# Altium schematic symbol library Generic Device.SchLib: 96 symbols
Pins are listed as number, name and electrical type; pins without a type are passive.

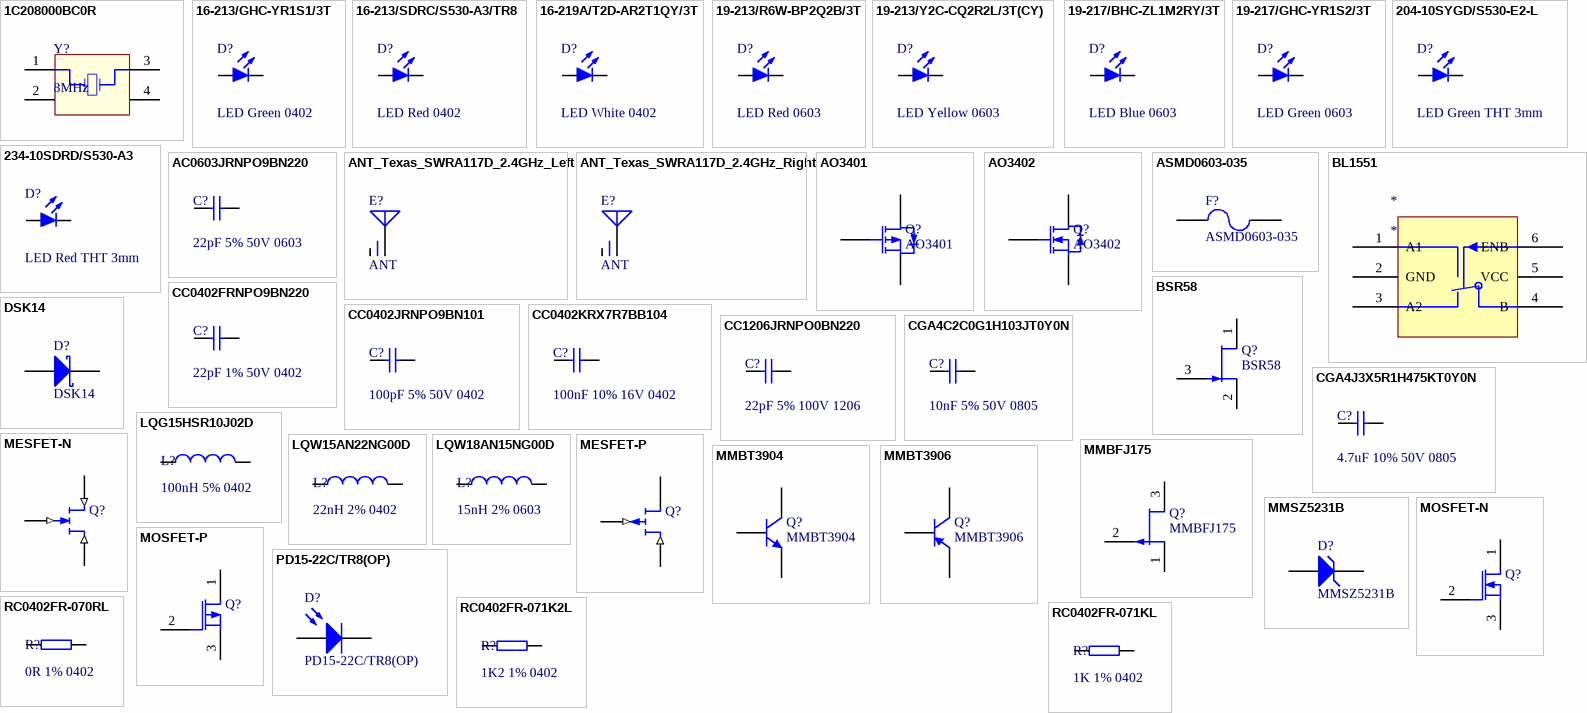
[diagram p0: symbols 1C208000BC0R to RC0402FR-071KL]

## 1C208000BC0R
designator Y?, comment 8MHz
Crystal Oscillator 8MHz ±20ppm; PartNumber: 1C208000BC0R; Manufacturer: YXC; Sku: C57131; Datasheet: https://atta.szlcsc.com/upload/public/pdf/source/20181127/C57131_200E70A230C2972B694309CA4254A92B.pdf; Price/1K: 1.25; Frequency: 8MHz; SupplierContact: https://item.szlcsc.com/58161.html
simulation model XTAL (Spice Subcircuit)
footprint Crystal_SMD_3225-4Pin_3.2x2.5mm
pins: 1 OSC1, 2 GND, 3 OSC2, 4 GND

## 16-213/GHC-YR1S1/3T
designator D?, comment LED Green 0402
Typical SMD Green LED; Manufacturer: EVERLIGHT; PartNumber: 16-213/GHC-YR1S1/3T; Sku: C74338; SupplierContact: https://item.szlcsc.com/75457.html; Datasheet: https://atta.szlcsc.com/upload/public/pdf/source/20160606/1465200212329.pdf; Color: Green; Price/1K: 0.244576
simulation model LED2 (Diode)
footprint D_0402_1005Metric
pins: 1 A, 2 K

## 16-213/SDRC/S530-A3/TR8
designator D?, comment LED Red 0402
Typical SMD Red LED; Manufacturer: EVERLIGHT; PartNumber: 16-213/SDRC/S530-A3/TR8; Sku: C71911; SupplierContact: https://item.szlcsc.com/73020.html; Datasheet: https://atta.szlcsc.com/upload/public/pdf/source/20180423/C71911_C51F85E8EEDEC443F292EE02E8E26750.pdf; Color: Red; Price/1K: 0.169863
simulation model LED2 (Diode)
footprint D_0402_1005Metric
pins: 1 A, 2 K

## 16-219A/T2D-AR2T1QY/3T
designator D?, comment LED White 0402
Typical SMD White LED; Manufacturer: EVERLIGHT; PartNumber: 16-219A/T2D-AR2T1QY/3T; Sku: C74342; SupplierContact: https://item.szlcsc.com/75461.html; Datasheet: https://atta.szlcsc.com/upload/public/pdf/source/20180705/C74342_7139C1633F069441022A5728799C19DA.pdf; Color: White; Price/1K: 0.327527
simulation model LED2 (Diode)
footprint D_0402_1005Metric
pins: 1 A, 2 K

## 19-213/R6W-BP2Q2B/3T
designator D?, comment LED Red 0603
Typical SMD Red LED; Manufacturer: EVERLIGHT; PartNumber: 19-213/R6W-BP2Q2B/3T; Sku: C181863; SupplierContact: https://item.szlcsc.com/193260.html; Datasheet: https://atta.szlcsc.com/upload/public/pdf/source/20190903/C181863_6F4238043BB621B28610B278EFA82774.pdf; Color: Red; Price/1K: 0.123742
simulation model LED2 (Diode)
footprint D_0603_1608Metric
pins: 1 A, 2 K

## 19-213/Y2C-CQ2R2L/3T(CY)
designator D?, comment LED Yellow 0603
Typical SMD Yellow LED; Manufacturer: EVERLIGHT; PartNumber: 19-213/Y2C-CQ2R2L/3T(CY); Sku: C72038; SupplierContact: https://item.szlcsc.com/73147.html; Datasheet: https://atta.szlcsc.com/upload/public/pdf/source/20160507/1462613613586.pdf; Color: Yellow; Price/1K: 0.07599
simulation model LED2 (Diode)
footprint D_0603_1608Metric
pins: 1 A, 2 K

## 19-217/BHC-ZL1M2RY/3T
designator D?, comment LED Blue 0603
Typical SMD Blue LED; Manufacturer: EVERLIGHT; PartNumber: 19-217/BHC-ZL1M2RY/3T; Sku: C72041; SupplierContact: https://item.szlcsc.com/73150.html; Datasheet: https://atta.szlcsc.com/upload/public/pdf/source/20170116/1484561237273.pdf; Color: Blue; Price/1K: 0.080386
simulation model LED2 (Diode)
footprint D_0603_1608Metric
pins: 1 A, 2 K

## 19-217/GHC-YR1S2/3T
designator D?, comment LED Green 0603
Typical SMD Green LED; Manufacturer: EVERLIGHT; PartNumber: 19-217/GHC-YR1S2/3T; Sku: C72043; SupplierContact: https://item.szlcsc.com/73152.html; Datasheet: https://atta.szlcsc.com/upload/public/pdf/source/20160507/1462613613780.pdf; Color: Green; Price/1K: 0.134655
simulation model LED2 (Diode)
footprint D_0603_1608Metric
pins: 1 A, 2 K

## 204-10SYGD/S530-E2-L
designator D?, comment LED Green THT 3mm
Typical THD Green LED; Manufacturer: EVERLIGHT; PartNumber: 204-10SYGD/S530-E2-L; Sku: C181864; SupplierContact: https://item.szlcsc.com/193261.html; Datasheet: https://atta.szlcsc.com/upload/public/pdf/source/20180530/C181864_6FF2FFF93D5E196F3440A39C17F4C039.pdf; Color: Green; Price/1K: 0.121429
simulation model LED2 (Diode)
footprint LED_D3.0mm
pins: 1 A, 2 K

## 234-10SDRD/S530-A3
designator D?, comment LED Red THT 3mm
Typical THD Red LED; Manufacturer: EVERLIGHT; PartNumber: 234-10SDRD/S530-A3; Sku: C181866; SupplierContact: https://item.szlcsc.com/193263.html; Datasheet: https://atta.szlcsc.com/upload/public/pdf/source/20190618/C181866_7E5E6DD26C34DFB3CF53EE69F15E6E05.pdf; Color: Red; Price/1K: 0.144661
simulation model LED2 (Diode)
footprint LED_D3.0mm
pins: 1 A, 2 K

## AC0603JRNPO9BN220
designator C?, comment 22pF 5% 50V 0603
Capacitor; Manufacturer: YAGEO; PartNumber: AC0603JRNPO9BN220; Sku: C309441; SupplierContact: https://item.szlcsc.com/293057.html; Datasheet: https://atta.szlcsc.com/upload/public/pdf/source/20181008/C309441_E958FA06007441EF202D70074EE8AD7B.pdf; Voltage: 50V; Precision: 5%; Price/1K: 0.036477
simulation model CAP (Capacitor)
signal-integrity model Cap
footprint C_0603_1608Metric
pins: 1, 2

## ANT_Texas_SWRA117D_2.4GHz_Left
designator E?, comment ANT  (mechanical)
Antenna
footprint Texas_SWRA117D_2.4GHz_Left (2.4G Antenna)
pins: 1 A, 2 RF_GND

## ANT_Texas_SWRA117D_2.4GHz_Right
designator E?, comment ANT  (mechanical)
Antenna
footprint Texas_SWRA117D_2.4GHz_Right (2.4G Antenna)
pins: 1 A, 2 RF_GND

## AO3401
designator Q?
P-Channel Enhanced mode MOSFET; Manufacturer: SHIKUES; Sku: C122851; Datasheet: https://atta.szlcsc.com/upload/public/pdf/source/20170918/C122851_1505700116343974908.pdf; SupplierContact: https://item.szlcsc.com/124121.html; PartNumber: AO3401; Price/1K: 0.184315
simulation model PMOS (MOSFET-P)
footprint SOT-23
pins: 1 G, 2 S, 3 D

## AO3402
designator Q?
N-Channel Enhanced mode MOSFET
simulation model NMOS (MOSFET-N)
footprint SOT-23
pins: 1 G, 2 S, 3 D

## ASMD0603-035
designator F?
Fuse 0.35A; Manufacturer: JDT; Current: 350mA; Sku: C135322; PartNumber: ASMD0603-035; SupplierContact: https://item.szlcsc.com/146633.html; Datasheet: https://atta.szlcsc.com/upload/public/pdf/source/20171014/C135322_15079756433811038393.pdf
simulation model FUSE (Spice Subcircuit)
footprint R_0603_1608Metric
pins: 1, 2

## BL1551
designator *
PartNumber: BL1551; Manufacturer: BL; SupplierContact: https://item.szlcsc.com/83685.html; Sku: C82528; Datasheet: https://atta.szlcsc.com/upload/public/pdf/source/20160910/1473490325889.pdf; Price/1K: 0.2126
pins: 1 A1, 2 GND, 3 A2, 4 B, 5 VCC, 6 ENB

## BSR58
designator Q?
N-Channel JFET; Manufacturer: ON; Pirce/1K: 0.405718; PartNumber: BSR58; Sku: C75909; Datasheet: https://atta.szlcsc.com/upload/public/pdf/source/20171026/C75909_15089842709341059261.pdf; SupplierContact: https://item.szlcsc.com/77036.html
simulation model NJFET
footprint SOT-23
pins: 1 D, 2 S, 3 G

## CC0402FRNPO9BN220
designator C?, comment 22pF 1% 50V 0402
Capacitor; Manufacturer: YAGEO; PartNumber: CC0402FRNPO9BN220; Sku: C277482; SupplierContact: https://item.szlcsc.com/264801.html; Datasheet: https://atta.szlcsc.com/upload/public/pdf/source/20180829/C277482_4B231FC49D8C634E4564098F0B7A093D.pdf; Voltage: 50V; Precision: 1%; Price/1K: 0.014626
simulation model CAP (Capacitor)
signal-integrity model Cap
footprint C_0402_1005Metric
pins: 1, 2

## CC0402JRNPO9BN101
designator C?, comment 100pF 5% 50V 0402
Capacitor; Manufacturer: YAGEO; PartNumber: CC0402JRNPO9BN101; Sku: C106200; SupplierContact: https://item.szlcsc.com/107415.html; Datasheet: https://atta.szlcsc.com/upload/public/pdf/source/20170425/1493115773886.pdf; Voltage: 50V; Precision: 5%; Price/1K: 0.006667
simulation model CAP (Capacitor)
signal-integrity model Cap
footprint C_0402_1005Metric
pins: 1, 2

## CC0402KRX7R7BB104
designator C?, comment 100nF 10% 16V 0402
Capacitor; Manufacturer: YAGEO; PartNumber: CC0402KRX7R7BB104; Sku: C60474; SupplierContact: https://item.szlcsc.com/61526.html; Datasheet: https://atta.szlcsc.com/upload/public/pdf/source/20170518/1495086054592.pdf; Voltage: 16V; Precision: 10%; Price/1K: 0.006836
simulation model CAP (Capacitor)
signal-integrity model Cap
footprint C_0402_1005Metric
pins: 1, 2

## CC1206JRNPO0BN220
designator C?, comment 22pF 5% 100V 1206
Capacitor; Manufacturer: YAGEO; PartNumber: CC1206JRNPO0BN220; Sku: C113878; SupplierContact: https://item.szlcsc.com/115114.html; Datasheet: https://atta.szlcsc.com/upload/public/pdf/source/20170602/1496384483816.pdf; Voltage: 100V; Precision: 5%; Price/1K: 0.112382
simulation model CAP (Capacitor)
signal-integrity model Cap
footprint C_1206_3216Metric
pins: 1, 2

## CGA4C2C0G1H103JT0Y0N
designator C?, comment 10nF 5% 50V 0805
Capacitor; Manufacturer: TDK; PartNumber: CGA4C2C0G1H103JT0Y0N; Sku: C342877; SupplierContact: https://item.szlcsc.com/319727.html; Datasheet: https://atta.szlcsc.com/upload/public/pdf/source/20190816/C342877_C22001E731534D08BB6E5C673471360D.pdf; Voltage: 50V; Precision: 5%; Price/1K: 0.260566
simulation model CAP (Capacitor)
signal-integrity model Cap
footprint C_0805_2012Metric
pins: 1, 2

## CGA4J3X5R1H475KT0Y0N
designator C?, comment 4.7uF 10% 50V 0805
Capacitor; Manufacturer: TDK; PartNumber: CGA4J3X5R1H475KT0Y0N; Sku: C329962; SupplierContact: https://item.szlcsc.com/309693.html; Datasheet: https://atta.szlcsc.com/upload/public/pdf/source/20190926/C329962_658A568C4765B78533AA820BBC420B4B.pdf; Voltage: 50V; Precision: 10%; Price/1K: 0.112382
simulation model CAP (Capacitor)
signal-integrity model Cap
footprint C_0805_2012Metric
pins: 1, 2

## DSK14
designator D?
Schottky Diode 1A; Reverse Voltage: 40V; SupplierContact: https://item.szlcsc.com/38028.html; Datasheet: https://atta.szlcsc.com/upload/public/pdf/source/20141025/1457707244438.pdf; Sku: C37049; Price/1K: 0.055207; Forward Current: 1A; PartNumber: DSK14
simulation model SKYDIODE (Diode)
signal-integrity model D Schottky
footprint D_SOD-123 (SODFL, 2-Leads, Body 1.60x3.70mm, IPC Medium Density)
pins: 1 A, 2 K

## LQG15HSR10J02D
designator L?, comment 100nH 5% 0402
Inductor; Manufacturer: muRata; PartNumber: LQG15HSR10J02D; Current: 200mA; Resistance: 1.25R; Precision: 5%; Sku: C98004; SupplierContact: https://item.szlcsc.com/99213.html; Datasheet: https://atta.szlcsc.com/upload/public/pdf/source/20180326/C98004_D43708631C17F50E889D0E254B160BA4.pdf; Price/1K: 0.024617
simulation model INDUCTOR (Inductor)
signal-integrity model Inductor
footprint L_0402_1005Metric (Chip Inductor, 2-Leads, Body 1.30x0.70mm, IPC Medium Density)
pins: 1, 2

## LQW15AN22NG00D
designator L?, comment 22nH 2% 0402
Inductor; Manufacturer: muRata; PartNumber: LQW15AN22NG00D; Current: 310mA; Resistance: 300mR; Precision: 2%; Sku: C86129; SupplierContact: https://item.szlcsc.com/87305.html; Datasheet: https://atta.szlcsc.com/upload/public/pdf/source/20180316/9F9AD211FF09D40AF5CB6AD447003171.pdf; Price/1K: 0.146783
simulation model INDUCTOR (Inductor)
signal-integrity model Inductor
footprint L_0402_1005Metric (Chip Inductor, 2-Leads, Body 1.30x0.70mm, IPC Medium Density)
pins: 1, 2

## LQW18AN15NG00D
designator L?, comment 15nH 2% 0603
Inductor; Manufacturer: muRata; PartNumber: LQW18AN15NG00D; Current: 600mA; Resistance: 130mR; Precision: 2%; Sku: C86132; SupplierContact: https://item.szlcsc.com/87308.html; Datasheet: https://atta.szlcsc.com/upload/public/pdf/source/20180326/C86132_4029539BF6357E3C805E97387298656C.pdf; Price/1K: 0.17477
simulation model INDUCTOR (Inductor)
signal-integrity model Inductor
footprint L_0603_1608Metric (Chip Inductor, 2-Leads, Body 1.78x1.10mm, IPC Medium Density)
pins: 1, 2

## MESFET-N
designator Q?
N-Channel MESFET; Published: 8-Jun-2000; LatestRevisionDate: 17-Jul-2002; LatestRevisionNote: Re-released for DXP Platform.; PackageReference: TO-18; Publisher: Altium Limited; PackageDescription: Can; 3 Leads; Pin Circle Dia. 2.54 mm; Lead Dia. 0.48 mm (max); Code_JEDEC: TO-18
simulation model NMESFET (MESFET-N)
pins: 1 D (in), 2 G (in), 3 S (in)

## MESFET-P
designator Q?
P-Channel MESFET; Published: 8-Jun-2000; LatestRevisionDate: 17-Jul-2002; LatestRevisionNote: Re-released for DXP Platform.; PackageReference: TO-18; Publisher: Altium Limited; PackageDescription: Can; 3 Leads; Pin Circle Dia. 2.54 mm; Lead Dia. 0.48 mm (max); Code_JEDEC: TO-18
simulation model PMESFET (MESFET-P)
pins: 1 D (in), 2 G (in), 3 S

## MMBFJ175
designator Q?
P-Channel JFET; Manufacturer: ON; SupplierContact: https://item.szlcsc.com/125766.html; Datasheet: https://atta.szlcsc.com/upload/public/pdf/source/20170804/C124491_1501836274824866302.pdf; Sku: C124491; Price/1K: 0.72; PartNumber: MMBFJ175
simulation model PJFET
footprint SOT-23
pins: 1 D, 2 G, 3 S

## MMBT3904
designator Q?
NPN Bipolar Transistor; Manufacturer: CJ; Vce: 40V; Ic: 200mA; PartNumber: MMBT3904; SupplierContact: https://item.szlcsc.com/21237.html; Datasheet: https://atta.szlcsc.com/upload/public/pdf/source/20140809/1457707209152.pdf; Sku: C20526; Price/1K: 0.051172
simulation model NPN
signal-integrity model NPN
footprint SOT-23
pins: 1 B, 2 E, 3 C

## MMBT3906
designator Q?
PNP Bipolar Transistor; Manufacturer: CJ; Vce: 40V; Ic: 200mA; SupplierContact: https://item.szlcsc.com/2500.html; Sku: C2143; Datasheet: https://atta.szlcsc.com/upload/public/pdf/source/20140809/1457707209152.pdf; Price/1K: 0.056787; PartNumber: MMBT3906
simulation model PNP
signal-integrity model PNP
pins: 1 B, 2 E, 3 C

## MMSZ5231B
designator D?
Zener Diode 5.1V; Manufacturer: CJ; SupplierContact: https://item.szlcsc.com/22284.html; PartNumber: MMSZ5231B; Sku: C21563; Price/1K: 0.095425; Datasheet: https://atta.szlcsc.com/upload/public/pdf/source/20140301/1457707002365.pdf; Voltage: 5.1V
simulation model ZENER (Diode)
signal-integrity model D Zener
footprint D_SOD-123 (SODFL, 2-Leads, Body 1.60x3.70mm, IPC Medium Density)
pins: 1 A, 2 K

## MOSFET-N
designator Q?
N-Channel Depletion mode MOSFET; Published: 8-Jun-2000; LatestRevisionDate: 17-Jul-2002; LatestRevisionNote: Re-released for DXP Platform.; PackageVersion: 1995/1996; PackageReference: E3; Publisher: Altium Limited; PackageDescription: TO, Flat Index; 3 In-Line, Axial Leads; Body Dia. 4.6mm; Lead Dia. 0.5 mm (max)
simulation model NMOS (MOSFET-N)
pins: 1 D, 2 G, 3 S

## MOSFET-P
designator Q?
P-Channel Depletion mode MOSFET
simulation model PMOS (MOSFET-P)
pins: 1 D, 2 G, 3 S

## PD15-22C/TR8(OP)
designator D?
Photosensitive Diode; Manufacturer: EVERLight; SupplierContact: https://item.szlcsc.com/366001.html; PartNumber: PD15-22C/TR8(OP); Datasheet: https://atta.szlcsc.com/upload/public/pdf/source/20190628/C390036_8EE39B6BE379C584EE8664609F8F3F56.pdf; Sku: C390036; Price/1K: 0.397857
footprint PhotoSenser_PD15-22C/TR8(OP)
pins: 1 A, 2 K

## RC0402FR-070RL
designator R?, comment 0R 1% 0402
Resistor; Manufacturer: YAGEO; PartNumber: RC0402FR-070RL; SupplierContact: https://item.szlcsc.com/107446.html; Sku: C106231; Datasheet: https://atta.szlcsc.com/upload/public/pdf/source/20170518/1495085712260.pdf; Price/1K: 0.002341; Precision: 1%
simulation model RESISTOR (Resistor)
signal-integrity model Res
footprint R_0402_1005Metric
pins: 1, 2

## RC0402FR-071K2L
designator R?, comment 1K2 1% 0402
Resistor; Manufacturer: YAGEO; PartNumber: RC0402FR-071K2L; SupplierContact: https://item.szlcsc.com/149356.html; Sku: C138040; Datasheet: https://atta.szlcsc.com/upload/public/pdf/source/20171107/C138040_15100516575521096963.pdf; Price/1K: 0.012251; Precision: 1%
simulation model RESISTOR (Resistor)
signal-integrity model Res
footprint R_0402_1005Metric
pins: 1, 2

## RC0402FR-071KL
designator R?, comment 1K 1% 0402
Resistor; Manufacturer: YAGEO; PartNumber: RC0402FR-071KL; SupplierContact: https://item.szlcsc.com/107450.html; Sku: C106235; Datasheet: https://atta.szlcsc.com/upload/public/pdf/source/20170518/1495085714666.pdf; Price/1K: 0.003173; Precision: 1%
simulation model RESISTOR (Resistor)
signal-integrity model Res
footprint R_0402_1005Metric
pins: 1, 2

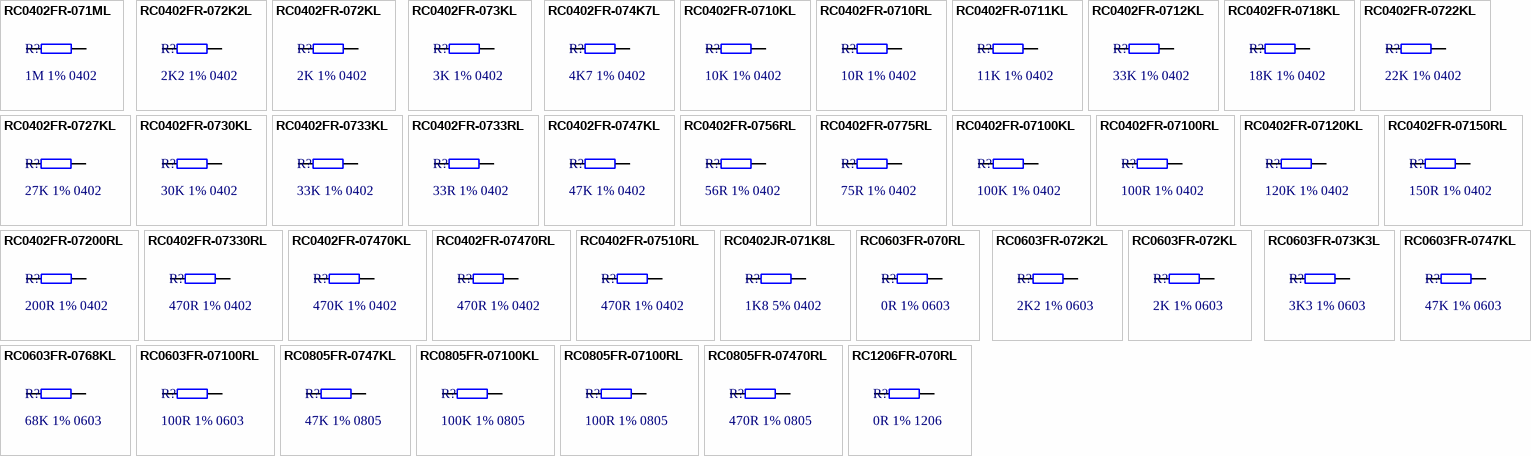
[diagram p1: symbols RC0402FR-071ML to RC1206FR-070RL]

## RC0402FR-071ML
designator R?, comment 1M 1% 0402
Resistor; Manufacturer: YAGEO; PartNumber: RC0402FR-071ML; SupplierContact: https://item.szlcsc.com/149349.html; Sku: C138033; Datasheet: https://atta.szlcsc.com/upload/public/pdf/source/20171107/C138033_15100516521061096957.pdf; Price/1K: 0.002486; Precision: 1%
simulation model RESISTOR (Resistor)
signal-integrity model Res
footprint R_0402_1005Metric
pins: 1, 2

## RC0402FR-072K2L
designator R?, comment 2K2 1% 0402
Resistor; Manufacturer: YAGEO; PartNumber: RC0402FR-072K2L; SupplierContact: https://item.szlcsc.com/116006.html; Sku: C114762; Datasheet: https://atta.szlcsc.com/upload/public/pdf/source/20170912/C114762_1505207818772963480.pdf; Price/1K: 0.002652; Precision: 1%
simulation model RESISTOR (Resistor)
signal-integrity model Res
footprint R_0402_1005Metric
pins: 1, 2

## RC0402FR-072KL
designator R?, comment 2K 1% 0402
Resistor; Manufacturer: YAGEO; PartNumber: RC0402FR-072KL; SupplierContact: https://item.szlcsc.com/61540.html; Sku: C60488; Datasheet: https://atta.szlcsc.com/upload/public/pdf/source/20170908/C60488_1504870084546958027.pdf; Price/1K: 0.002468; Precision: 1%
simulation model RESISTOR (Resistor)
signal-integrity model Res
footprint R_0402_1005Metric
pins: 1, 2

## RC0402FR-073KL
designator R?, comment 3K 1% 0402
Resistor; Manufacturer: YAGEO; PartNumber: RC0402FR-073KL; SupplierContact: https://item.szlcsc.com/149303.html; Sku: C137987; Datasheet: https://atta.szlcsc.com/upload/public/pdf/source/20171107/C137987_15100516201071096915.pdf; Price/1K: 0.013343; Precision: 1%
simulation model RESISTOR (Resistor)
signal-integrity model Res
footprint R_0402_1005Metric
pins: 1, 2

## RC0402FR-074K7L
designator R?, comment 4K7 1% 0402
Resistor; Manufacturer: YAGEO; PartNumber: RC0402FR-074K7L; SupplierContact: https://item.szlcsc.com/107086.html; Sku: C105871; Datasheet: https://atta.szlcsc.com/upload/public/pdf/source/20170912/C105871_1505207463959963228.pdf; Price/1K: 0.010391; Precision: 1%
simulation model RESISTOR (Resistor)
signal-integrity model Res
footprint R_0402_1005Metric
pins: 1, 2

## RC0402FR-0710KL
designator R?, comment 10K 1% 0402
Resistor; Manufacturer: YAGEO; PartNumber: RC0402FR-0710KL; SupplierContact: https://item.szlcsc.com/61542.html; Sku: C60490; Datasheet: https://atta.szlcsc.com/upload/public/pdf/source/20170606/1496716515432.pdf; Price/1K: 0.002396; Precision: 1%
simulation model RESISTOR (Resistor)
signal-integrity model Res
footprint R_0402_1005Metric
pins: 1, 2

## RC0402FR-0710RL
designator R?, comment 10R 1% 0402
Resistor; Manufacturer: YAGEO; PartNumber: RC0402FR-0710RL; SupplierContact: https://item.szlcsc.com/149382.html; Sku: C138066; Datasheet: https://atta.szlcsc.com/upload/public/pdf/source/20171107/C138066_15100516786461096988.pdf; Price/1K: 0.002551; Precision: 1%
simulation model RESISTOR (Resistor)
signal-integrity model Res
footprint R_0402_1005Metric
pins: 1, 2

## RC0402FR-0711KL
designator R?, comment 11K 1% 0402
Resistor; Manufacturer: YAGEO; PartNumber: RC0402FR-0711KL; SupplierContact: https://item.szlcsc.com/107447.html; Sku: C138063; Datasheet: https://atta.szlcsc.com/upload/public/pdf/source/20170518/1495085712869.pdf; Price/1K: 0.012335; Precision: 1%
simulation model RESISTOR (Resistor)
signal-integrity model Res
footprint R_0402_1005Metric
pins: 1, 2

## RC0402FR-0712KL
designator R?, comment 33K 1% 0402
Resistor; Manufacturer: YAGEO; PartNumber: RC0402FR-0712KL; SupplierContact: https://item.szlcsc.com/116004.html; Sku: C114760; Datasheet: https://atta.szlcsc.com/upload/public/pdf/source/20170912/C114760_1505207817289963478.pdf; Price/1K: 0.00247; Precision: 1%
simulation model RESISTOR (Resistor)
signal-integrity model Res
footprint R_0402_1005Metric
pins: 1, 2

## RC0402FR-0718KL
designator R?, comment 18K 1% 0402
Resistor; Manufacturer: YAGEO; PartNumber: RC0402FR-0718KL; SupplierContact: https://item.szlcsc.com/149360.html; Sku: C138044; Datasheet: https://atta.szlcsc.com/upload/public/pdf/source/20171107/C138044_15100516608411096967.pdf; Price/1K: 0.003583; Precision: 1%
simulation model RESISTOR (Resistor)
signal-integrity model Res
footprint R_0402_1005Metric
pins: 1, 2

## RC0402FR-0722KL
designator R?, comment 22K 1% 0402
Resistor; Manufacturer: YAGEO; PartNumber: RC0402FR-0722KL; SupplierContact: https://item.szlcsc.com/84029.html; Sku: C82868; Datasheet: https://atta.szlcsc.com/upload/public/pdf/source/20171123/C82868_15114111826501138005.pdf; Price/1K: 0.008382; Precision: 1%
simulation model RESISTOR (Resistor)
signal-integrity model Res
footprint R_0402_1005Metric
pins: 1, 2

## RC0402FR-0727KL
designator R?, comment 27K 1% 0402
Resistor; Manufacturer: YAGEO; PartNumber: RC0402FR-0727KL; SupplierContact: https://item.szlcsc.com/149338.html; Sku: C138022; Datasheet: https://atta.szlcsc.com/upload/public/pdf/source/20171113/C138022_15105611226441115522.pdf; Price/1K: 0.013093; Precision: 1%
simulation model RESISTOR (Resistor)
signal-integrity model Res
footprint R_0402_1005Metric
pins: 1, 2

## RC0402FR-0730KL
designator R?, comment 30K 1% 0402
Resistor; Manufacturer: YAGEO; PartNumber: RC0402FR-0730KL; SupplierContact: https://item.szlcsc.com/149324.html; Sku: C138008; Datasheet: https://atta.szlcsc.com/upload/public/pdf/source/20171107/C138008_15100516356731096935.pdf; Price/1K: 0.010391; Precision: 1%
simulation model RESISTOR (Resistor)
signal-integrity model Res
footprint R_0402_1005Metric
pins: 1, 2

## RC0402FR-0733KL
designator R?, comment 33K 1% 0402
Resistor; Manufacturer: YAGEO; PartNumber: RC0402FR-0733KL; SupplierContact: https://item.szlcsc.com/149319.html; Sku: C138003; Datasheet: https://atta.szlcsc.com/upload/public/pdf/source/20171107/C138003_15100516318761096930.pdf; Price/1K: 0.013485; Precision: 1%
simulation model RESISTOR (Resistor)
signal-integrity model Res
footprint R_0402_1005Metric
pins: 1, 2

## RC0402FR-0733RL
designator R?, comment 33R 1% 0402
Resistor; Manufacturer: YAGEO; PartNumber: RC0402FR-0733RL; SupplierContact: https://item.szlcsc.com/149318.html; Sku: C138002; Datasheet: https://atta.szlcsc.com/upload/public/pdf/source/20171107/C138002_15100516310171096929.pdf; Price/1K: 0.002435; Precision: 1%
simulation model RESISTOR (Resistor)
signal-integrity model Res
footprint R_0402_1005Metric
pins: 1, 2

## RC0402FR-0747KL
designator R?, comment 47K 1% 0402
Resistor; Manufacturer: YAGEO; PartNumber: RC0402FR-0747KL; SupplierContact: https://item.szlcsc.com/95141.html; Sku: C93943; Datasheet: https://atta.szlcsc.com/upload/public/pdf/source/20170908/C93943_1504870168965958150.pdf; Price/1K: 0.011425; Precision: 1%
simulation model RESISTOR (Resistor)
signal-integrity model Res
footprint R_0402_1005Metric
pins: 1, 2

## RC0402FR-0756RL
designator R?, comment 56R 1% 0402
Resistor; Manufacturer: YAGEO; PartNumber: RC0402FR-0756RL; SupplierContact: https://item.szlcsc.com/149273.html; Sku: C137957; Datasheet: https://atta.szlcsc.com/upload/public/pdf/source/20171107/C137957_15100515975331096885.pdf; Price/1K: 0.011131; Precision: 1%
simulation model RESISTOR (Resistor)
signal-integrity model Res
footprint R_0402_1005Metric
pins: 1, 2

## RC0402FR-0775RL
designator R?, comment 75R 1% 0402
Resistor; Manufacturer: YAGEO; PartNumber: RC0402FR-0775RL; SupplierContact: https://item.szlcsc.com/116001.html; Sku: C114757; Datasheet: https://atta.szlcsc.com/upload/public/pdf/source/20170912/C114757_1505207814834963475.pdf; Price/1K: 0.002385; Precision: 1%
simulation model RESISTOR (Resistor)
signal-integrity model Res
footprint R_0402_1005Metric
pins: 1, 2

## RC0402FR-07100KL
designator R?, comment 100K 1% 0402
Resistor; Manufacturer: YAGEO; PartNumber: RC0402FR-07100KL; SupplierContact: https://item.szlcsc.com/61543.html; Sku: C60491; Datasheet: https://atta.szlcsc.com/upload/public/pdf/source/20170518/1495086055123.pdf; Price/1K: 0.002426; Precision: 1%
simulation model RESISTOR (Resistor)
signal-integrity model Res
footprint R_0402_1005Metric
pins: 1, 2

## RC0402FR-07100RL
designator R?, comment 100R 1% 0402
Resistor; Manufacturer: YAGEO; PartNumber: RC0402FR-07100RL; SupplierContact: https://item.szlcsc.com/107447.html; Sku: C106232; Datasheet: https://atta.szlcsc.com/upload/public/pdf/source/20170518/1495085712869.pdf; Price/1K: 0.002349; Precision: 1%
simulation model RESISTOR (Resistor)
signal-integrity model Res
footprint R_0402_1005Metric
pins: 1, 2

## RC0402FR-07120KL
designator R?, comment 120K 1% 0402
Resistor; Manufacturer: YAGEO; PartNumber: RC0402FR-07120KL; SupplierContact: https://item.szlcsc.com/95143.html; Sku: C93945; Datasheet: https://atta.szlcsc.com/upload/public/pdf/source/20170908/C93945_1504870169608958151.pdf; Price/1K: 0.012455; Precision: 1%
simulation model RESISTOR (Resistor)
signal-integrity model Res
footprint R_0402_1005Metric
pins: 1, 2

## RC0402FR-07150RL
designator R?, comment 150R 1% 0402
Resistor; Manufacturer: YAGEO; PartNumber: RC0402FR-07150RL; SupplierContact: https://item.szlcsc.com/149370.html; Sku: C138054; Datasheet: https://atta.szlcsc.com/upload/public/pdf/source/20171107/C138054_15100516700041096977.pdf; Price/1K: 0.011922; Precision: 1%
simulation model RESISTOR (Resistor)
signal-integrity model Res
footprint R_0402_1005Metric
pins: 1, 2

## RC0402FR-07200RL
designator R?, comment 200R 1% 0402
Resistor; Manufacturer: YAGEO; PartNumber: RC0402FR-07200RL; SupplierContact: https://item.szlcsc.com/116008.html; Sku: C114764; Datasheet: https://atta.szlcsc.com/upload/public/pdf/source/20170912/C114764_1505207820163963482.pdf; Price/1K: 0.003352; Precision: 1%
simulation model RESISTOR (Resistor)
signal-integrity model Res
footprint R_0402_1005Metric
pins: 1, 2

## RC0402FR-07330RL
designator R?, comment 470R 1% 0402
Resistor; Manufacturer: YAGEO; PartNumber: RC0402FR-07330RL; SupplierContact: https://item.szlcsc.com/107090.html; Sku: C105875; Datasheet: https://atta.szlcsc.com/upload/public/pdf/source/20171014/C105875_15079752483611037902.pdf; Price/1K: 0.002377; Precision: 1%
simulation model RESISTOR (Resistor)
signal-integrity model Res
footprint R_0402_1005Metric
pins: 1, 2

## RC0402FR-07470KL
designator R?, comment 470K 1% 0402
Resistor; Manufacturer: YAGEO; PartNumber: RC0402FR-07470KL; SupplierContact: https://item.szlcsc.com/149292.html; Sku: C137976; Datasheet: https://atta.szlcsc.com/upload/public/pdf/source/20171107/C137976_15100516118121096904.pdf; Price/1K: 0.010313; Precision: 1%
simulation model RESISTOR (Resistor)
signal-integrity model Res
footprint R_0402_1005Metric
pins: 1, 2

## RC0402FR-07470RL
designator R?, comment 470R 1% 0402
Resistor; Manufacturer: YAGEO; PartNumber: RC0402FR-07470RL; SupplierContact: https://item.szlcsc.com/116121.html; Sku: C114877; Datasheet: https://atta.szlcsc.com/upload/public/pdf/source/20170912/C114877_1505207821835963485.pdf; Price/1K: 0.002562; Precision: 1%
simulation model RESISTOR (Resistor)
signal-integrity model Res
footprint R_0402_1005Metric
pins: 1, 2

## RC0402FR-07510RL
designator R?, comment 470R 1% 0402
Resistor; Manufacturer: YAGEO; PartNumber: RC0402FR-07510RL; SupplierContact: https://item.szlcsc.com/263977.html; Sku: C276273; Datasheet: https://atta.szlcsc.com/upload/public/pdf/source/20180904/C276273_EE1233773D5E62AA9C4A34DD19110C10.pdf; Price/1K: 0.002606; Precision: 1%
simulation model RESISTOR (Resistor)
signal-integrity model Res
footprint R_0402_1005Metric
pins: 1, 2

## RC0402JR-071K8L
designator R?, comment 1K8 5% 0402
Resistor; Manufacturer: YAGEO; PartNumber: RC0402JR-071K8L; SupplierContact: https://item.szlcsc.com/149225.html; Sku: C137909; Datasheet: https://atta.szlcsc.com/upload/public/pdf/source/20171107/C137909_15100515623851096840.pdf; Price/1K: 0.011117; Precision: 5%
simulation model RESISTOR (Resistor)
signal-integrity model Res
footprint R_0402_1005Metric
pins: 1, 2

## RC0603FR-070RL
designator R?, comment 0R 1% 0603
Resistor; Manufacturer: YAGEO; PartNumber: RC0603FR-070RL; SupplierContact: https://item.szlcsc.com/101258.html; Sku: C100044; Datasheet: https://atta.szlcsc.com/upload/public/pdf/source/20170620/1497944725236.pdf; Price/1K: 0.004316; Precision: 1%
simulation model RESISTOR (Resistor)
signal-integrity model Res
footprint R_0603_1608Metric
pins: 1, 2

## RC0603FR-072K2L
designator R?, comment 2K2 1% 0603
Resistor; Manufacturer: YAGEO; PartNumber: RC0603FR-072K2L; SupplierContact: https://item.szlcsc.com/115906.html; Sku: C114662; Datasheet: https://atta.szlcsc.com/upload/public/pdf/source/20170818/C114662_1503051152560895127.pdf; Price/1K: 0.004685; Precision: 1%
simulation model RESISTOR (Resistor)
signal-integrity model Res
footprint R_0603_1608Metric
pins: 1, 2

## RC0603FR-072KL
designator R?, comment 2K 1% 0603
Resistor; Manufacturer: YAGEO; PartNumber: RC0603FR-072KL; SupplierContact: https://item.szlcsc.com/106791.html; Sku: C105576; Datasheet: https://atta.szlcsc.com/upload/public/pdf/source/20170428/1493376739276.pdf; Price/1K: 0.004326; Precision: 1%
simulation model RESISTOR (Resistor)
signal-integrity model Res
footprint R_0603_1608Metric
pins: 1, 2

## RC0603FR-073K3L
designator R?, comment 3K3 1% 0603
Resistor; Manufacturer: YAGEO; PartNumber: RC0603FR-073K3L; SupplierContact: https://item.szlcsc.com/109297.html; Sku: C108078; Datasheet: https://atta.szlcsc.com/upload/public/pdf/source/20170818/C108078_1503051116709895065.pdf; Price/1K: 0.005182; Precision: 1%
simulation model RESISTOR (Resistor)
signal-integrity model Res
footprint R_0603_1608Metric
pins: 1, 2

## RC0603FR-0747KL
designator R?, comment 47K 1% 0603
Resistor; Manufacturer: YAGEO; PartNumber: RC0603FR-0747KL; SupplierContact: https://item.szlcsc.com/106794.html; Sku: C105579; Datasheet: https://atta.szlcsc.com/upload/public/pdf/source/20170428/1493376740901.pdf; Price/1K: 0.004311; Precision: 1%
simulation model RESISTOR (Resistor)
signal-integrity model Res
footprint R_0603_1608Metric
pins: 1, 2

## RC0603FR-0768KL
designator R?, comment 68K 1% 0603
Resistor; Manufacturer: YAGEO; PartNumber: RC0603FR-0768KL; SupplierContact: https://item.szlcsc.com/115877.html; Sku: C114633; Datasheet: https://atta.szlcsc.com/upload/public/pdf/source/20170818/C114633_1503051150281895124.pdf; Price/1K: 0.004207; Precision: 1%
simulation model RESISTOR (Resistor)
signal-integrity model Res
footprint R_0603_1608Metric
pins: 1, 2

## RC0603FR-07100RL
designator R?, comment 100R 1% 0603
Resistor; Manufacturer: YAGEO; PartNumber: RC0603FR-07100RL; SupplierContact: https://item.szlcsc.com/106804.html; Sku: C105588; Datasheet: https://atta.szlcsc.com/upload/public/pdf/source/20170428/1493376742308.pdf; Price/1K: 0.004416; Precision: 1%
simulation model RESISTOR (Resistor)
signal-integrity model Res
footprint R_0603_1608Metric
pins: 1, 2

## RC0805FR-0747KL
designator R?, comment 47K 1% 0805
Resistor; Manufacturer: YAGEO; PartNumber: RC0805FR-0747KL; SupplierContact: https://item.szlcsc.com/137631.html; Sku: C126351; Datasheet: https://atta.szlcsc.com/upload/public/pdf/source/20170912/C126351_1505207885148963572.pdf; Price/1K: 0.0203; Precision: 1%
simulation model RESISTOR (Resistor)
signal-integrity model Res
footprint R_0402_1005Metric
pins: 1, 2

## RC0805FR-07100KL
designator R?, comment 100K 1% 0805
Resistor; Manufacturer: YAGEO; PartNumber: RC0805FR-07100KL; SupplierContact: https://item.szlcsc.com/97550.html; Sku: C96346; Datasheet: https://atta.szlcsc.com/upload/public/pdf/source/20170304/1488621208805.pdf; Price/1K: 0.008312; Precision: 1%
simulation model RESISTOR (Resistor)
signal-integrity model Res
footprint R_0805_2012Metric
pins: 1, 2

## RC0805FR-07100RL
designator R?, comment 100R 1% 0805
Resistor; Manufacturer: YAGEO; PartNumber: RC0805FR-07100RL; SupplierContact: https://item.szlcsc.com/106792.html; Sku: C105577; Datasheet: https://atta.szlcsc.com/upload/public/pdf/source/20180326/C105577_AD9A7BE83CA741FA4285487F4E780D99.pdf; Price/1K: 0.008616; Precision: 1%
simulation model RESISTOR (Resistor)
signal-integrity model Res
footprint R_0805_2012Metric
pins: 1, 2

## RC0805FR-07470RL
designator R?, comment 470R 1% 0805
Resistor; Manufacturer: YAGEO; PartNumber: RC0805FR-07470RL; SupplierContact: https://item.szlcsc.com/106792.html; Sku: C114564; Datasheet: https://atta.szlcsc.com/upload/public/pdf/source/20180326/C105577_AD9A7BE83CA741FA4285487F4E780D99.pdf; Price/1K: 0.014577; Precision: 1%
simulation model RESISTOR (Resistor)
signal-integrity model Res
footprint R_0805_2012Metric
pins: 1, 2

## RC1206FR-070RL
designator R?, comment 0R 1% 1206
Resistor; Manufacturer: YAGEO; PartNumber: RC1206FR-070RL; SupplierContact: https://item.szlcsc.com/148710.html; Sku: C137394; Datasheet: https://atta.szlcsc.com/upload/public/pdf/source/20171106/C137394_15099604109671093558.pdf; Price/1K: 0.01296; Precision: 1%
simulation model RESISTOR (Resistor)
signal-integrity model Res
footprint R_1206_3216Metric
pins: 1, 2

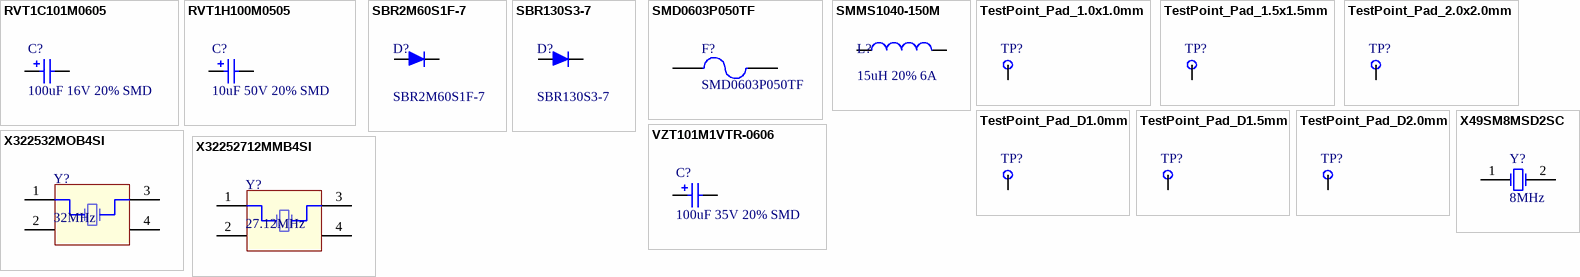
[diagram p2: symbols RVT1C101M0605 to X32252712MMB4SI]

## RVT1C101M0605
designator C?, comment 100uF 16V 20% SMD
Aluminum Polarized Capacitor (Surface Mount); PartNumber: RVT1C101M0605; Manufacturer: Honor; Datasheet: https://atta.szlcsc.com/upload/public/pdf/source/20160816/1471342958881.pdf; SupplierContact: https://item.szlcsc.com/38287.html; Sku: C37308; Voltage: 16V; Precision: 20%; Price/1K: 0.161706
simulation model CAP (Capacitor)
signal-integrity model Cap Pol
footprint CP_Elec_6.6x6.6x5.7mm_D6.3mm (Aluminum Electrolytic Capacitor, Body 6.60x6.60x5.70mm, IPC Low Density)
pins: 1, 2
1 alternate drawing of the same symbol

## RVT1H100M0505
designator C?, comment 10uF 50V 20% SMD
Aluminum Polarized Capacitor (Surface Mount); PartNumber: RVT1H100M0505; Manufacturer: Roqang; Datasheet: https://atta.szlcsc.com/upload/public/pdf/watermark/20190926/C72487_8E5F4AF595E9FA018662BF7FB489AD0A.pdf; SupplierContact: https://item.szlcsc.com/38287.html; Sku: C72487; Voltage: 50V; Precision: 20%; Price/1K: 0.130608
simulation model CAP (Capacitor)
signal-integrity model Cap Pol
footprint CP_Elec_6.6x6.6x5.7mm_D6.3mm (Aluminum Electrolytic Capacitor, Body 6.60x6.60x5.70mm, IPC Low Density)
pins: 1, 2
1 alternate drawing of the same symbol

## SBR2M60S1F-7
designator D?
Diode; Manufacturer: DIODES; Forward Current: 700mV@2A; Reverse Voltage: 60V; Sku: C151019; Price/1K: 0.479309; SupplierContact: https://item.szlcsc.com/162359.html; Datasheet: https://atta.szlcsc.com/upload/public/pdf/source/20171212/C151019_15130639225281177901.pdf; PartNumber: SBR2M60S1F-7
simulation model DIODE (Diode)
signal-integrity model Diode
footprint D_SOD-123 (SODFL, 2-Leads, Body 1.60x3.70mm, IPC Medium Density)
pins: 1 K, 2 A

## SBR130S3-7
designator D?
Diode; Manufacturer: DIODES; Forward Current: 460mV@1A; Reverse Voltage: 30V; Sku: C117949; Price/1K: 0.380745; SupplierContact: https://item.szlcsc.com/119208.html; Datasheet: https://atta.szlcsc.com/upload/public/pdf/source/20170919/C117949_1505787083328976729.pdf; PartNumber: SBR130S3-7
simulation model DIODE (Diode)
signal-integrity model Diode
footprint D_SOD-123 (SODFL, 2-Leads, Body 1.60x3.70mm, IPC Medium Density)
pins: 1 K, 2 A

## SMD0603P050TF
designator F?
Fuse 0.5A; Manufacturer: RUILON; Current: 500mA; Sku: C20789; PartNumber: SMD0603P050TF; SupplierContact: https://item.szlcsc.com/21501.html
simulation model FUSE (Spice Subcircuit)
footprint R_0603_1608Metric
pins: 1, 2

## SMMS1040-150M
designator L?, comment 15uH 20% 6A
Inductor; Manufacturer: SXN; PartNumber: SMMS1040-150M; Resistance: 55mR; Precision: 20%; Sku: C149596; SupplierContact: https://item.szlcsc.com/160930.html; Datasheet: https://atta.szlcsc.com/upload/public/pdf/source/20171123/C149596_15114362349911139435.pdf; Price/1K: 0.92; Current: 6A
simulation model INDUCTOR (Inductor)
signal-integrity model Inductor
footprint L_SXN-SMMS1040 (Precision Wire Wound Inductor, 2-Leads, Body 11.50x10.00mm, IPC Medium Density)
pins: 1, 2

## TestPoint_Pad_1.0x1.0mm
designator TP?, comment TestPoint Pad_1.0x1.0mm  (value not drawn)  (mechanical)
Test Point
footprint TestPoint_Pad_1.0x1.0mm
pins: 1 TP

## TestPoint_Pad_1.5x1.5mm
designator TP?, comment TestPoint Pad_1.5x1.5mm  (value not drawn)  (mechanical)
Test Point
footprint TestPoint_Pad_1.5x1.5mm
pins: 1 TP

## TestPoint_Pad_2.0x2.0mm
designator TP?, comment TestPoint Pad_2.0x2.0mm  (value not drawn)  (mechanical)
Test Point
footprint TestPoint_Pad_2.0x2.0mm
pins: 1 TP

## TestPoint_Pad_D1.0mm
designator TP?, comment TestPoint Pad_D1.0mm  (value not drawn)  (mechanical)
Test Point
footprint TestPoint_Pad_D1.0mm
pins: 1 TP

## TestPoint_Pad_D1.5mm
designator TP?, comment TestPoint Pad_D1.5mm  (value not drawn)  (mechanical)
Test Point
footprint TestPoint_Pad_D1.5mm
pins: 1 TP

## TestPoint_Pad_D2.0mm
designator TP?, comment TestPoint Pad_D2.0mm  (value not drawn)  (mechanical)
Test Point
footprint TestPoint_Pad_D2.0mm
pins: 1 TP

## VZT101M1VTR-0606
designator C?, comment 100uF 35V 20% SMD
Aluminum Polarized Capacitor (Surface Mount); PartNumber: VZT101M1VTR-0606; Manufacturer: Lelon; Datasheet: https://atta.szlcsc.com/upload/public/pdf/source/20181120/C249982_970424CCFBF293AC33EFE275A29D102D.pdf; SupplierContact: https://item.szlcsc.com/246104.html; Sku: C249982; Voltage: 35V; Precision: 20%; Price/1K: 0.460733
simulation model CAP (Capacitor)
signal-integrity model Cap Pol
footprint CP_Elec_6.6x6.6x5.7mm_D6.3mm (Aluminum Electrolytic Capacitor, Body 6.60x6.60x5.70mm, IPC Low Density)
pins: 1, 2
1 alternate drawing of the same symbol

## X49SM8MSD2SC
designator Y?, comment 8MHz
Crystal Oscillator 8MHz ±20ppm; PartNumber: X49SM8MSD2SC; Manufacturer: YXC; Sku: C12674; Datasheet: https://atta.szlcsc.com/upload/public/pdf/source/20161110/1478747289731.pdf; Price/1K: 0.3186; Frequency: 8MHz; SupplierContact: https://item.szlcsc.com/13310.html
simulation model XTAL (Spice Subcircuit)
footprint Crystal_HC49-U_Vertical_SMD
pins: 1 OSC1, 2 OSC2

## X322532MOB4SI
designator Y?, comment 32MHz
Crystal Oscillator 32MHz ±10ppm; PartNumber: X322532MOB4SI; Manufacturer: YXC; Sku: C9009; Datasheet: https://atta.szlcsc.com/upload/public/pdf/source/20180906/C9009_CC0B60BF52BE8F73EE92D95280D39E44.pdf; Price/1K: 0.453231; Frequency: 32MHz; SupplierContact: https://item.szlcsc.com/9529.html
simulation model XTAL (Spice Subcircuit)
footprint Crystal_SMD_3225-4Pin_3.2x2.5mm
pins: 1 OSC1, 2 GND, 3 OSC2, 4 GND

## X32252712MMB4SI
designator Y?, comment 27.12MHz
Crystal Oscillator 27.12MHz ±10ppm; PartNumber: X32252712MMB4SI; Manufacturer: YXC; Sku: C29975; Datasheet: https://atta.szlcsc.com/upload/public/pdf/source/20180906/C29975_B0C1898AEF110932B6D31BD5832BD5C8.pdf; Price/1K: 0.400843; Frequency: 27.12MHz; SupplierContact: https://item.szlcsc.com/30730.html
simulation model XTAL (Spice Subcircuit)
footprint Crystal_SMD_3225-4Pin_3.2x2.5mm
pins: 1 OSC1, 2 GND, 3 OSC2, 4 GND